# Altium schematic symbol library TI_LM96570SQXNOPB.SchLib: 2 symbols
Pins are listed as number, name and electrical type; pins without a type are passive.

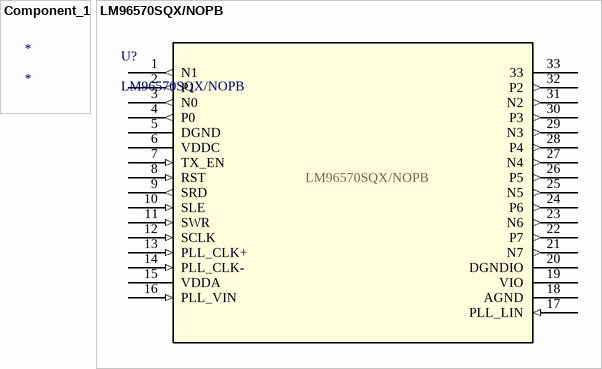
[diagram p0: symbols Component_1 to LM96570SQX/NOPB]

## Component_1
designator *

## LM96570SQX/NOPB
designator U?
Ultrasound Configurable Transmit Beamformer; Manufacturer: Texas Instruments; NSC_PackageReference: SQA32A; DatasheetURL: http://www.ti.com/lit/ds/symlink/lm96570.pdf; basePN: LM96570; Vendor: Texas Instruments; Copyright: Copyright (C) 2018 Accelerated Designs. All rights reserved; RefDes: RefDes; Type: DEV; Manufacturer_Part_Number: LM96570SQX/NOPB
footprint SQA32A
pins: 1 N1 (out), 2 P1 (out), 3 N0 (out), 4 P0 (out), 5 DGND (power), 6 VDDC (power), 7 TX_EN (in), 8 RST (in), 9 SRD (out), 10 SLE (in), 11 SWR (in), 12 SCLK (in), 13 PLL_CLK+ (in), 14 PLL_CLK- (in), 15 VDDA (power), 16 PLL_VIN (in), 17 PLL_LIN (in), 18 AGND (power), 19 VIO (power), 20 DGNDIO (power), 21 N7 (out), 22 P7 (out), 23 N6 (out), 24 P6 (out), 25 N5 (out), 26 P5 (out), 27 N4 (out), 28 P4 (out), 29 N3 (out), 30 P3 (out), 31 N2 (out), 32 P2 (out), 33